# EAGLE library part BGA715L7 (library isystems)
BGA715L7 Silicon Germanium GPS Low Noise Amplifier High gain: 20 dB Low Noise Figure: 0.7 dB Low current consumption: 3.3 mA Supply voltage: 1.5 V to 3.3 V High input compression point -15.5 dBm at 1.8 V supply High input 3rd intercept point -7 dBm at 1.8 V supply B7HFM Silicon Germanium technology RF output internally matched to 50 Ω 2kV HBM ESD protection (including AI-pin) http://www.infineon.com/dgdl/bga715l7.pdf?folderId=db3a304314dca389011540bd469d15de&fileId=db3a30431b3e89eb011b79c5a4ba1692
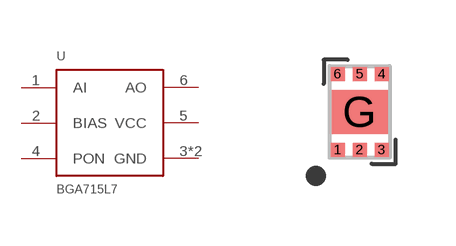
[diagram p13: symbol with the pads of TSLP7-4; footprint TSLP7-4]

Designator prefix U

## BGA715L7  [TSLP7-4]
1  AI  in
2  BIAS  in
3  GND  pwr
4  PON  in
5  VCC  pwr
6  AO  out
G  GND  pwr

## Footprint TSLP7-4 (pad centres in mm)
smd 0.35 x 0.35: 1 -0.55,-0.95; 2 0,-0.95; 3 0.55,-0.95; 4 0.55,0.95; 5 0,0.95; 6 -0.55,0.95
smd 1.4 x 1.1: G 0,0